# Altium schematic symbol library Schematics Library.SchLib: 11 symbols
Pins are listed as number, name and electrical type; pins without a type are passive.

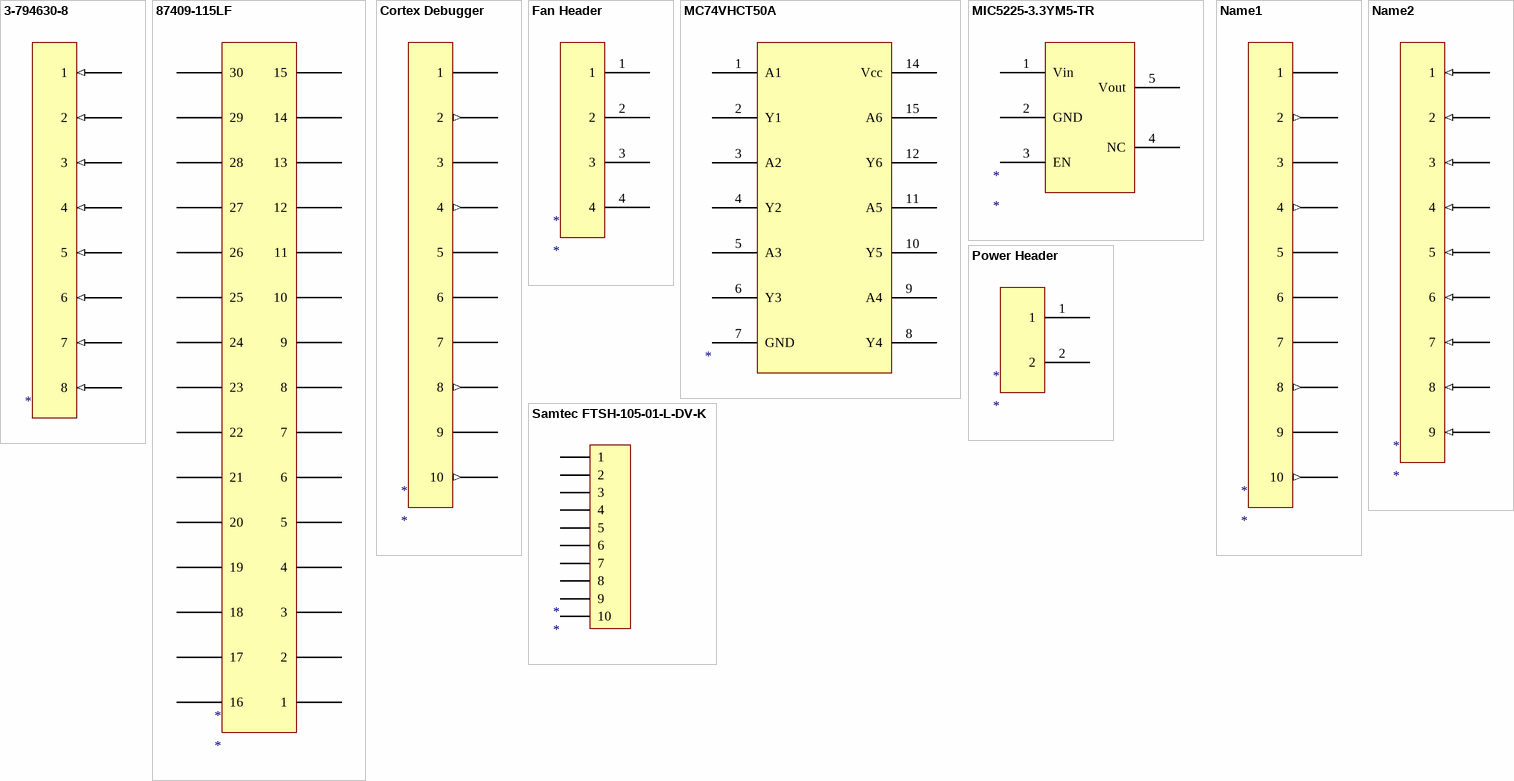
[diagram p0: symbols 3-794630-8 to Samtec FTSH-105-01-L-DV-K]

## 3-794630-8
designator *
8 Position Header
pins: 1 (in), 3 (in), 4 (in), 5 (in), 6 (in), 7 (in), 8 (in), 66 2 (in)

## 87409-115LF
designator *
pins: 1, 2, 3, 4, 5, 6, 7, 8, 9, 10, 11, 12, 13, 14, 15, 16, 17, 18, 19, 20, 21, 22, 23, 24, 25, 26, 27, 28, 29, 30

## Cortex Debugger
designator *
Header; Supplier 1: Digi-Key
pins: 1 (power), 3 (power), 4 (out), 5 (power), 6, 7, 8 (out), 9 (power), 10 (out), 66 2 (out)

## Fan Header
designator *
Fan Header
pins: 1 (power), 2 (power), 3 (power), 4 (power)

## MC74VHCT50A
designator *  (value not drawn)
6-Channel CMOS Buffer
pins: 1 A1 (power), 2 Y1 (power), 3 A2 (power), 4 Y2 (power), 5 A3 (power), 6 Y3 (power), 7 GND, 8 Y4 (power), 9 A4 (power), 10 Y5 (power), 11 A5 (power), 12 Y6 (power), 14 Vcc (power), 15 A6 (power)

## MIC5225-3.3YM5-TR
designator *
12V-3.3V Linear Regulator
pins: 1 Vin, 2 GND, 3 EN, 4 NC, 5 Vout

## Name1
designator *
10 position header
pins: 1 (power), 3 (power), 4 (out), 5 (power), 6, 7, 8 (out), 9 (power), 10 (out), 66 2 (out)

## Name2
designator *
9 Position header
pins: 1 (in), 3 (in), 4 (in), 5 (in), 6 (in), 7 (in), 8 (in), 9 (in), 66 2 (in)

## Power Header
designator *
Power Header
pins: 1 (power), 2 (power)

## Samtec FTSH-105-01-L-DV-K
designator *
10-Pin 1.27mm Shrouded Cortex Debug Connector; Supplier 1: Digi-Key; Supplier Part Number 1: SAM8799-ND
footprint Samtec FTSH-105-01-L-DV-K (10-Pin 1.27mm Shrouded Header)
pins: 1, 2, 3, 4, 5, 6, 7, 8, 9, 10

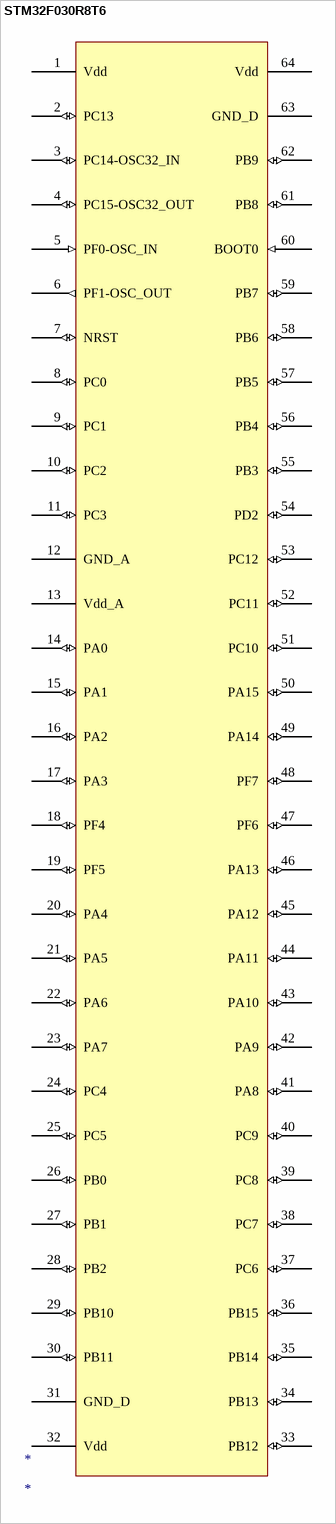
[diagram p1: symbol STM32F030R8T6]

## STM32F030R8T6
designator *
MCU
pins: 1 Vdd (power) "Digital Input voltage", 2 PC13 (io), 3 PC14-OSC32_IN (io), 4 PC15-OSC32_OUT (io), 5 PF0-OSC_IN (in), 6 PF1-OSC_OUT (out), 7 NRST (io), 8 PC0 (io), 9 PC1 (io), 10 PC2 (io), 11 PC3 (io), 12 GND_A (power), 13 Vdd_A (power), 14 PA0 (io), 15 PA1 (io), 16 PA2 (io), 17 PA3 (io), 18 PF4 (io), 19 PF5 (io), 20 PA4 (io), 21 PA5 (io), 22 PA6 (io), 23 PA7 (io), 24 PC4 (io), 25 PC5 (io), 26 PB0 (io), 27 PB1 (io), 28 PB2 (io), 29 PB10 (io), 30 PB11 (io), 31 GND_D (power), 32 Vdd (power), 33 PB12 (io), 34 PB13 (io), 35 PB14 (io), 36 PB15 (io), 37 PC6 (io), 38 PC7 (io), 39 PC8 (io), 40 PC9 (io), 41 PA8 (io), 42 PA9 (io), 43 PA10 (io), 44 PA11 (io), 45 PA12 (io), 46 PA13 (io), 47 PF6 (io), 48 PF7 (io), 49 PA14 (io), 50 PA15 (io), 51 PC10 (io), 52 PC11 (io), 53 PC12 (io), 54 PD2 (io), 55 PB3 (io), 56 PB4 (io), 57 PB5 (io), 58 PB6 (io), 59 PB7 (io), 60 BOOT0 (in), 61 PB8 (io), 62 PB9 (io), 63 GND_D, 64 Vdd (power) "Digital Input voltage"